# Altium integrated library TI Power Management Step-Down Regulator.IntLib: 565 symbols (part 21 of 33)
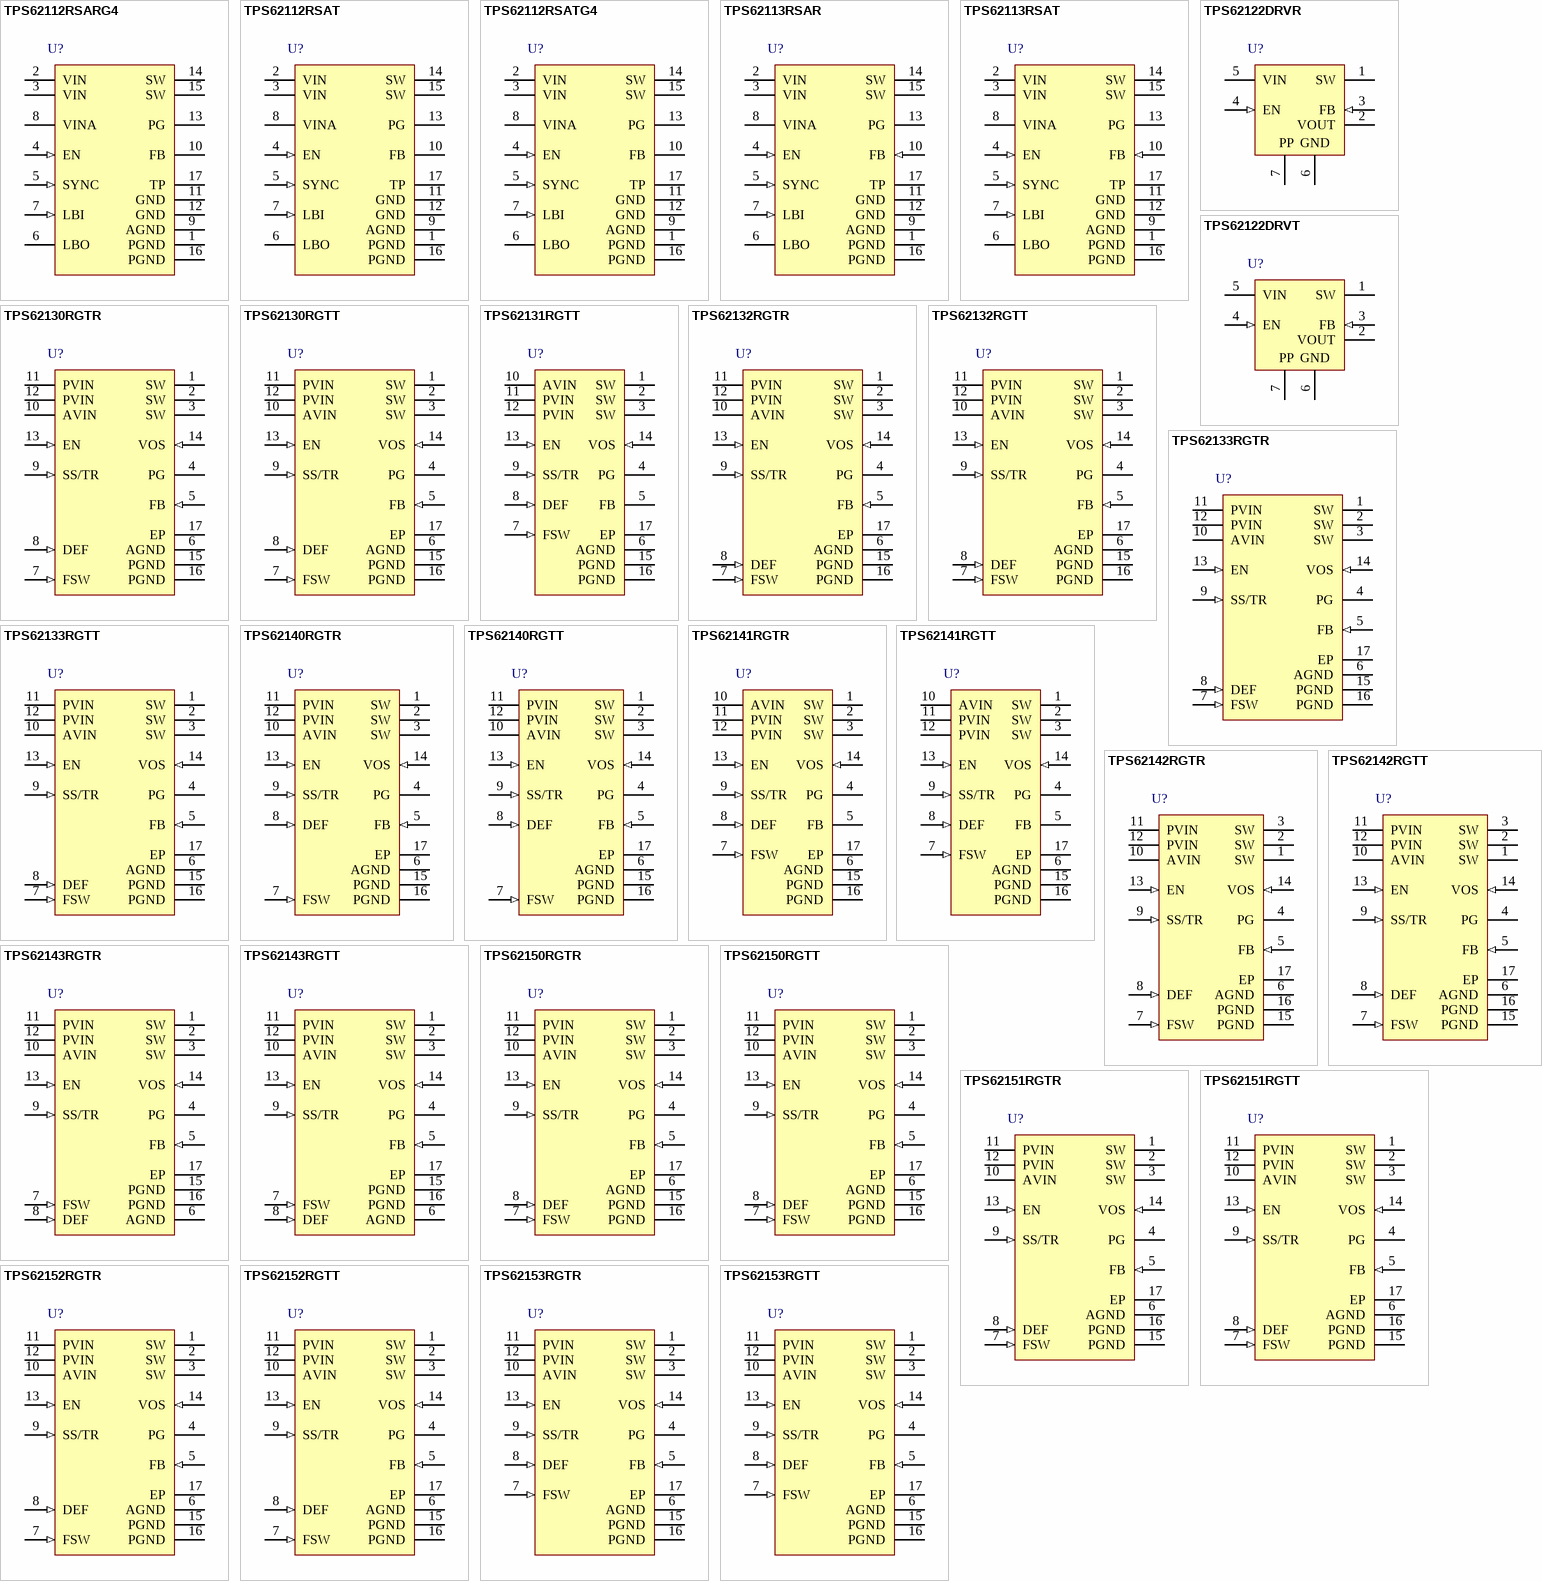
[diagram p39: symbols TPS62112RSARG4 to TPS62153RGTT]

## TPS62151RGTT
designator U?
Buck Step Down Regulator with 3 to 17 V Input and 1.8 V Output, -40 to 85 degC, 16-Pin QFN (RGT), Green (RoHS & no Sb/Br); Manufacturer: Texas Instruments; PartNumber: TPS62151RGTT; Duty Cycle(Max)(%): 90; Iout(Max)(A): 1; Iq(Typ)(mA): 0.017; Preset Vout(V): 1.8; Rating: Catalog; SubFamily: Step-Down Regulator; Switch Current Limit(Typ)(A): 1.7; Synchronous Rectification: TRUE; Vin(Max)(V): 17; Vin(Min)(V): 3; DatasheetVersion: SLVSAL5; PackageVersion: revH, Oct-2011; PackageReference: RGT16-1700X1700TP; PackageDescription: 16-Pin Plastic Quad Flat No-Lead, 3 x 3 mm Body, 0.5 mm Pitch, 1.7 x 1.7 mm Exposed Pad; Supplier 1: Digi-Key; Supplier Part Number 1: 296-30008-2-ND; Eco-Plan: Green (RoHS & no Sb/Br); Regulated Outputs(#): 1; Topology: Buck; Vout(Max)(V): 1.8; Vout(Min)(V): 1.8; Mounting Technology: Surface Mount; Code_JEDEC: MO-220; ComponentLink1Description: Datasheet; ComponentLink1URL: http://www.ti.com/general/docs/lit/getliterature.tsp?genericPartNumber=TPS62151&fileType=pdf; ComponentLink2Description: Package Specification; ComponentLink2URL: http://www.ti.com/litv/pdf/mpqf119g; ComponentLink3Description: URL Link1; ComponentLink3URL: Samples URL:http://www.ti.com/product/tps54611#samples
footprint RGT16-1700X1700TP (QFN, 16-Leads, Body 3x3mm, Pitch 0.5mm, Thermal Pad 1.7x1.7mm, TI Recommended)
pins: 1 SW (power) "Switch node, which is connected to the internal MOSFET switches. Connect inductor between SW and output capacitor.", 2 SW (power) "Switch node, which is connected to the internal MOSFET switches. Connect inductor between SW and output capacitor.", 3 SW (power) "Switch node, which is connected to the internal MOSFET switches. Connect inductor between SW and output capacitor.", 4 PG (hiz) "Output power good (High = VOUT ready, Low = VOUT below nominal regulation); open drain (requires pull-up resistor; goes high impedance, when device is switched off)", 5 FB (in) "Voltage feedback of adjustable version connect resistive voltage divider to this pin. Its recommended to connect FB to AGND on fixed output voltage versions for improved thermal performance.", 6 AGND (power) "Analog Ground", 7 FSW (in) "Switching Frequency Select (Low  approx= 2.5MHz, High  approx= 1.25MHz for typical operation)", 8 DEF (in) "Output Voltage Scaling (Low = nominal, High = nominal + 5%)", 9 SS/TR (in) "Soft-Start / Tracking Pin. An external capacitor connected to this pin sets the internal voltage reference rise time. It can be used for tracking and sequencing.", 10 AVIN (power) "Supply voltage for control circuitry. Connect to same source as PVIN.", 11 PVIN (power) "Supply voltage for power stage. Connect to same source as AVIN.", 12 PVIN (power) "Supply voltage for power stage. Connect to same source as AVIN.", 13 EN (in) "Enable input (High = enabled, Low = disabled)", 14 VOS (in) "Output voltage sense pin and connection for the control loop circuitry.", 15 PGND (power) "Power ground", 16 PGND (power) "Power ground", 17 EP (power) "Must be connected to AGND. Must be soldered to achieve appropriate power dissipation and mechanical reliability."

## TPS62152RGTR
designator U?
Buck Step Down Regulator with 3 to 17 V Input and 3.3 V Output, -40 to 85 degC, 16-Pin QFN (RGT), Green (RoHS & no Sb/Br); Manufacturer: Texas Instruments; PartNumber: TPS62152RGTR; Duty Cycle(Max)(%): 100; Iout(Max)(A): 1; Iq(Typ)(mA): 0.017; Preset Vout(V): 3.3; Rating: Catalog; SubFamily: Step-Down Regulator; Switch Current Limit(Typ)(A): 1.7; Synchronous Rectification: TRUE; Vin(Max)(V): 17; Vin(Min)(V): 3; DatasheetVersion: SLVSAL5; PackageVersion: revH, Oct-2011; PackageReference: RGT16-1700X1700TP; PackageDescription: 16-Pin Plastic Quad Flat No-Lead, 3 x 3 mm Body, 0.5 mm Pitch, 1.7 x 1.7 mm Exposed Pad; Supplier 1: Digi-Key; Supplier Part Number 1: TPS62152RGTR-ND; Eco-Plan: Green (RoHS & no Sb/Br); Regulated Outputs(#): 1; Topology: Buck; Vout(Max)(V): 3.3; Vout(Min)(V): 3.3; Mounting Technology: Surface Mount; Code_JEDEC: MO-220; ComponentLink1Description: Datasheet; ComponentLink1URL: http://www.ti.com/general/docs/lit/getliterature.tsp?genericPartNumber=TPS62152&fileType=pdf; ComponentLink2Description: Package Specification; ComponentLink2URL: http://www.ti.com/litv/pdf/mpqf119g; ComponentLink3Description: URL Link1; ComponentLink3URL: Samples URL:http://www.ti.com/product/tps62152#samples
footprint RGT16-1700X1700TP (QFN, 16-Leads, Body 3x3mm, Pitch 0.5mm, Thermal Pad 1.7x1.7mm, TI Recommended)
pins: 1 SW (power) "Switch node, which is connected to the internal MOSFET switches. Connect inductor between SW and output capacitor.", 2 SW (power) "Switch node, which is connected to the internal MOSFET switches. Connect inductor between SW and output capacitor.", 3 SW (power) "Switch node, which is connected to the internal MOSFET switches. Connect inductor between SW and output capacitor.", 4 PG (hiz) "Output power good (High = VOUT ready, Low = VOUT below nominal regulation) ; open drain (requires pull-up resistor; goes high impedance, when device is switched off)", 5 FB (in) "Voltage feedback of adjustable version connect resistive voltage divider to this pin. Its recommended to connect FB to AGND on fixed output voltage versions for improved thermal performance.", 6 AGND (power) "Analog Ground", 7 FSW (in) "Switching Frequency Select (Low ˜ 2.5MHz, High ˜ 1.25MHz for typical operation)", 8 DEF (in) "Output Voltage Scaling (Low = nominal, High = nominal + 5%)", 9 SS/TR (in) "Soft-Start / Tracking Pin. An external capacitor connected to this pin sets the internal voltage reference rise time. It can be used for tracking and sequencing.", 10 AVIN (power) "Supply voltage for control circuitry. Connect to same source as PVIN.", 11 PVIN (power) "Supply voltage for power stage. Connect to same source as AVIN.", 12 PVIN (power) "Supply voltage for power stage. Connect to same source as AVIN.", 13 EN (in) "Enable input (High = enabled, Low = disabled)", 14 VOS (in) "Output voltage sense pin and connection for the control loop circuitry", 15 PGND (power) "Power ground", 16 PGND (power) "Power ground", 17 EP (power) "Must be connected to AGND. Must be soldered to achieve appropriate power dissipation and mechanical reliability."

## TPS62152RGTT
designator U?
Buck Step Down Regulator with 3 to 17 V Input and 3.3 V Output, -40 to 85 degC, 16-Pin QFN (RGT), Green (RoHS & no Sb/Br); Manufacturer: Texas Instruments; PartNumber: TPS62152RGTT; Duty Cycle(Max)(%): 100; Iout(Max)(A): 1; Iq(Typ)(mA): 0.017; Preset Vout(V): 3.3; Rating: Catalog; SubFamily: Step-Down Regulator; Switch Current Limit(Typ)(A): 1.7; Synchronous Rectification: TRUE; Vin(Max)(V): 17; Vin(Min)(V): 3; DatasheetVersion: SLVSAL5; PackageVersion: revH, Oct-2011; PackageReference: RGT16-1700X1700TP; PackageDescription: 16-Pin Plastic Quad Flat No-Lead, 3 x 3 mm Body, 0.5 mm Pitch, 1.7 x 1.7 mm Exposed Pad; Supplier 1: Digi-Key; Supplier Part Number 1: 296-30009-2-ND; Eco-Plan: Green (RoHS & no Sb/Br); Regulated Outputs(#): 1; Topology: Buck; Vout(Max)(V): 3.3; Vout(Min)(V): 3.3; Mounting Technology: Surface Mount; Code_JEDEC: MO-220; ComponentLink1Description: Datasheet; ComponentLink1URL: http://www.ti.com/general/docs/lit/getliterature.tsp?genericPartNumber=TPS62152&fileType=pdf; ComponentLink2Description: Package Specification; ComponentLink2URL: http://www.ti.com/litv/pdf/mpqf119g; ComponentLink3Description: URL Link1; ComponentLink3URL: Samples URL:http://www.ti.com/product/tps54611#samples
footprint RGT16-1700X1700TP (QFN, 16-Leads, Body 3x3mm, Pitch 0.5mm, Thermal Pad 1.7x1.7mm, TI Recommended)
pins: 1 SW (power) "Switch node, which is connected to the internal MOSFET switches. Connect inductor between SW and output capacitor.", 2 SW (power) "Switch node, which is connected to the internal MOSFET switches. Connect inductor between SW and output capacitor.", 3 SW (power) "Switch node, which is connected to the internal MOSFET switches. Connect inductor between SW and output capacitor.", 4 PG (hiz) "Output power good (High = VOUT ready, Low = VOUT below nominal regulation) ; open drain (requires pull-up resistor; goes high impedance, when device is switched off)", 5 FB (in) "Voltage feedback of adjustable version connect resistive voltage divider to this pin. Its recommended to connect FB to AGND on fixed output voltage versions for improved thermal performance.", 6 AGND (power) "Analog Ground", 7 FSW (in) "Switching Frequency Select (Low ˜ 2.5MHz, High ˜ 1.25MHz for typical operation)", 8 DEF (in) "Output Voltage Scaling (Low = nominal, High = nominal + 5%)", 9 SS/TR (in) "Soft-Start / Tracking Pin. An external capacitor connected to this pin sets the internal voltage reference rise time. It can be used for tracking and sequencing.", 10 AVIN (power) "Supply voltage for control circuitry. Connect to same source as PVIN.", 11 PVIN (power) "Supply voltage for power stage. Connect to same source as AVIN.", 12 PVIN (power) "Supply voltage for power stage. Connect to same source as AVIN.", 13 EN (in) "Enable input (High = enabled, Low = disabled)", 14 VOS (in) "Output voltage sense pin and connection for the control loop circuitry", 15 PGND (power) "Power ground", 16 PGND (power) "Power ground", 17 EP (power) "Must be connected to AGND. Must be soldered to achieve appropriate power dissipation and mechanical reliability."

## TPS62153RGTR
designator U?
Buck Step Down Regulator with 3 to 17 V Input and 5 V Output, -40 to 85 degC, 16-Pin QFN (RGT), Green (RoHS & no Sb/Br); Manufacturer: Texas Instruments; PartNumber: TPS62153RGTR; Duty Cycle(Max)(%): 100; Iout(Max)(A): 1; Iq(Typ)(mA): 0.017; Preset Vout(V): 5; Rating: Catalog; SubFamily: Step-Down Regulator; Switch Current Limit(Typ)(A): 1.7; Synchronous Rectification: TRUE; Vin(Max)(V): 17; Vin(Min)(V): 3; DatasheetVersion: SLVSAL5; PackageVersion: revH, Oct-2011; PackageReference: RGT16-1700X1700TP; PackageDescription: 16-Pin Plastic Quad Flat No-Lead, 3 x 3 mm Body, 0.5 mm Pitch, 1.7 x 1.7 mm Exposed Pad; Supplier 1: Digi-Key; Supplier Part Number 1: TPS62153RGTR-ND; Eco-Plan: Green (RoHS & no Sb/Br); Regulated Outputs(#): 1; Topology: Buck; Vout(Max)(V): 5; Vout(Min)(V): 5; Mounting Technology: Surface Mount; Code_JEDEC: MO-220; ComponentLink1Description: Datasheet; ComponentLink1URL: http://www.ti.com/general/docs/lit/getliterature.tsp?genericPartNumber=TPS62153&fileType=pdf; ComponentLink2Description: Package Specification; ComponentLink2URL: http://www.ti.com/litv/pdf/mpqf119g; ComponentLink3Description: URL Link1; ComponentLink3URL: Samples URL:http://www.ti.com/product/tps62153#samples
footprint RGT16-1700X1700TP (QFN, 16-Leads, Body 3x3mm, Pitch 0.5mm, Thermal Pad 1.7x1.7mm, TI Recommended)
pins: 1 SW (power) "Switch node, which is connected to the internal MOSFET switches. Connect inductor between SW and output capacitor.", 2 SW (power) "Switch node, which is connected to the internal MOSFET switches. Connect inductor between SW and output capacitor.", 3 SW (power) "Switch node, which is connected to the internal MOSFET switches. Connect inductor between SW and output capacitor.", 4 PG (hiz) "Output power good (High = VOUT ready, Low = VOUT below nominal regulation) ; open drain (requires pull-up resistor; goes high impedance, when device is switched off)", 5 FB (in) "Voltage feedback of adjustable version connect resistive voltage divider to this pin. Its recommended to connect FB to AGND on fixed output voltage versions for improved thermal performance.", 6 AGND (power) "Analog Ground", 7 FSW (in) "Switching Frequency Select (Low ˜ 2.5MHz, High ˜ 1.25MHz for typical operation)", 8 DEF (in) "Output Voltage Scaling (Low = nominal, High = nominal + 5%)", 9 SS/TR (in) "Soft-Start / Tracking Pin. An external capacitor connected to this pin sets the internal voltage reference rise time. It can be used for tracking and sequencing.", 10 AVIN (power) "Supply voltage for control circuitry. Connect to same source as PVIN.", 11 PVIN (power) "Supply voltage for power stage. Connect to same source as AVIN.", 12 PVIN (power) "Supply voltage for power stage. Connect to same source as AVIN.", 13 EN (in) "Enable input (High = enabled, Low = disabled)", 14 VOS (in) "Output voltage sense pin and connection for the control loop circuitry.", 15 PGND (power) "Power ground", 16 PGND (power) "Power ground", 17 EP (power) "Must be connected to AGND. Must be soldered to achieve appropriate power dissipation and mechanical reliability."

## TPS62153RGTT
designator U?
Buck Step Down Regulator with 3 to 17 V Input and 5 V Output, -40 to 85 degC, 16-Pin QFN (RGT), Green (RoHS & no Sb/Br); Manufacturer: Texas Instruments; PartNumber: TPS62153RGTT; Duty Cycle(Max)(%): 100; Iout(Max)(A): 1; Iq(Typ)(mA): 0.017; Preset Vout(V): 5; Rating: Catalog; SubFamily: Step-Down Regulator; Switch Current Limit(Typ)(A): 1.7; Synchronous Rectification: TRUE; Vin(Max)(V): 17; Vin(Min)(V): 3; DatasheetVersion: SLVSAL5; PackageVersion: revH, Oct-2011; PackageReference: RGT16-1700X1700TP; PackageDescription: 16-Pin Plastic Quad Flat No-Lead, 3 x 3 mm Body, 0.5 mm Pitch, 1.7 x 1.7 mm Exposed Pad; Supplier 1: Digi-Key; Supplier Part Number 1: 296-30010-2-ND; Eco-Plan: Green (RoHS & no Sb/Br); Regulated Outputs(#): 1; Topology: Buck; Vout(Max)(V): 5; Vout(Min)(V): 5; Mounting Technology: Surface Mount; Code_JEDEC: MO-220; ComponentLink1Description: Datasheet; ComponentLink1URL: http://www.ti.com/general/docs/lit/getliterature.tsp?genericPartNumber=TPS62153&fileType=pdf; ComponentLink2Description: Package Specification; ComponentLink2URL: http://www.ti.com/litv/pdf/mpqf119g; ComponentLink3Description: URL Link1; ComponentLink3URL: Samples URL:http://www.ti.com/product/tps54611#samples
footprint RGT16-1700X1700TP (QFN, 16-Leads, Body 3x3mm, Pitch 0.5mm, Thermal Pad 1.7x1.7mm, TI Recommended)
pins: 1 SW (power) "Switch node, which is connected to the internal MOSFET switches. Connect inductor between SW and output capacitor.", 2 SW (power) "Switch node, which is connected to the internal MOSFET switches. Connect inductor between SW and output capacitor.", 3 SW (power) "Switch node, which is connected to the internal MOSFET switches. Connect inductor between SW and output capacitor.", 4 PG (hiz) "Output power good (High = VOUT ready, Low = VOUT below nominal regulation) ; open drain (requires pull-up resistor; goes high impedance, when device is switched off)", 5 FB (in) "Voltage feedback of adjustable version connect resistive voltage divider to this pin. Its recommended to connect FB to AGND on fixed output voltage versions for improved thermal performance.", 6 AGND (power) "Analog Ground", 7 FSW (in) "Switching Frequency Select (Low ˜ 2.5MHz, High ˜ 1.25MHz for typical operation)", 8 DEF (in) "Output Voltage Scaling (Low = nominal, High = nominal + 5%)", 9 SS/TR (in) "Soft-Start / Tracking Pin. An external capacitor connected to this pin sets the internal voltage reference rise time. It can be used for tracking and sequencing.", 10 AVIN (power) "Supply voltage for control circuitry. Connect to same source as PVIN.", 11 PVIN (power) "Supply voltage for power stage. Connect to same source as AVIN.", 12 PVIN (power) "Supply voltage for power stage. Connect to same source as AVIN.", 13 EN (in) "Enable input (High = enabled, Low = disabled)", 14 VOS (in) "Output voltage sense pin and connection for the control loop circuitry.", 15 PGND (power) "Power ground", 16 PGND (power) "Power ground", 17 EP (power) "Must be connected to AGND. Must be soldered to achieve appropriate power dissipation and mechanical reliability."

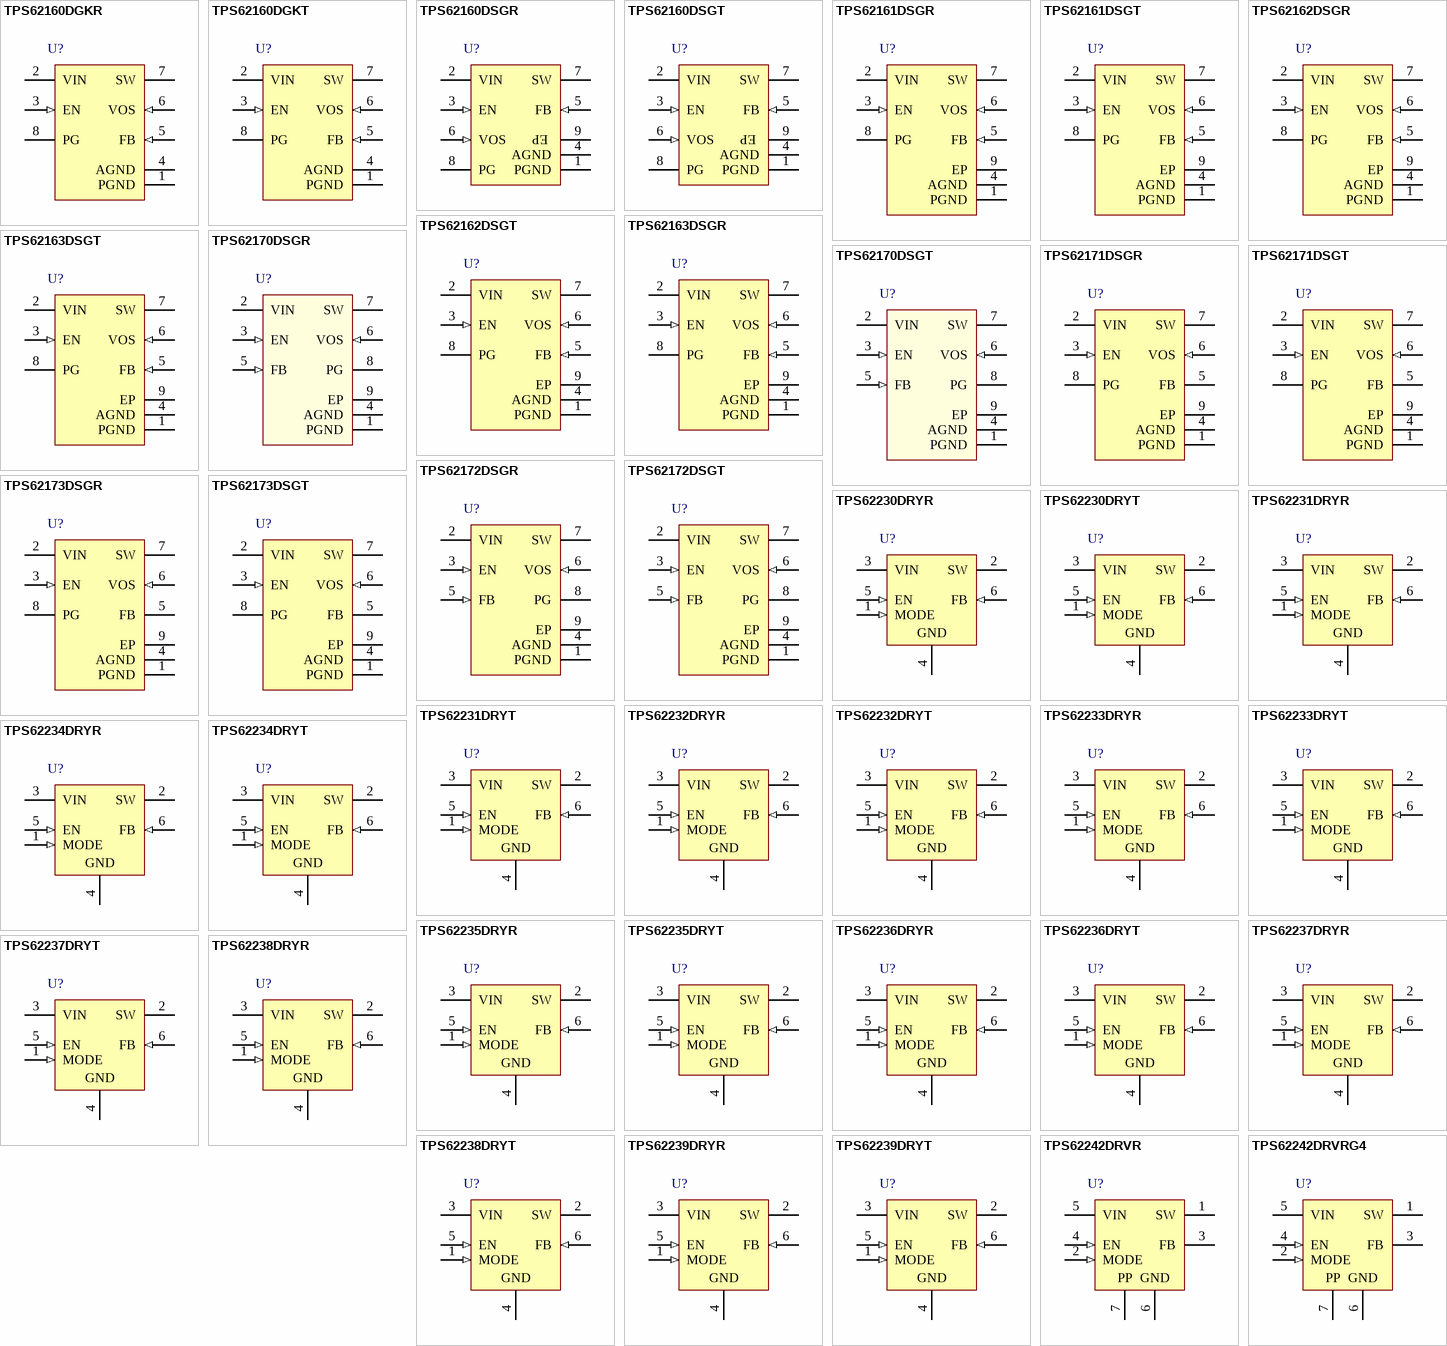
[diagram p11: symbols TPS62160DGKR to TPS62242DRVRG4]

## TPS62160DGKR
designator U?
Buck Step Down Regulator with 3 to 17 V Input and 0.9 to 6 V Output, -40 to 85 degC, 8-Pin VSSOP (DGK), Green (RoHS & no Sb/Br); Manufacturer: Texas Instruments; PartNumber: TPS62160DGKR; Duty Cycle(Max)(%): 100; Iout(Max)(A): 1; Iq(Typ)(mA): 0.017; Rating: Catalog; SubFamily: Step-Down Regulator; Switch Current Limit(Typ)(A): 1.8; Synchronous Rectification: TRUE; Vin(Max)(V): 17; Vin(Min)(V): 3; Vout(Max)(V): 6; Vout(Min)(V): 0.9; DatasheetVersion: SLVSAM2A; PackageVersion: revE, May-2006; PackageReference: DGK8; PackageDescription: 8-Pin Thin Small Outline Package 3 x 3 mm Body ,0.65 mm Pitch; Supplier 1: Digi-Key; Supplier Part Number 1: TPS62160DGKR-ND; Eco-Plan: Green (RoHS & no Sb/Br); Regulated Outputs(#): 1; Topology: Buck; Mounting Technology: Surface Mount; Code_JEDEC: MO-187-AA; ComponentLink1Description: Datasheet; ComponentLink1URL: http://www.ti.com/general/docs/lit/getliterature.tsp?genericPartNumber=TPS62160&fileType=pdf; ComponentLink2Description: Package Specification; ComponentLink2URL: http://www.ti.com/lit/ml/mpds028d/mpds028d.pdf; ComponentLink3Description: URL Link1; ComponentLink3URL: Samples URL:http://www.ti.com/product/tps62160#samples
footprint DGK8_N (TSOP, 8-Leads, Body 3x3mm, Pitch 0.65mm, IPC Medium Density)
footprint DGK8_L (TSOP, 8-Leads, Body 3x3mm, Pitch 0.65mm, IPC High Density)
footprint DGK8_M (TSOP, 8-Leads, Body 3x3mm, Pitch 0.65mm, IPC Low Density)
pins: 1 PGND (power) "Power ground", 2 VIN (power) "Supply voltage", 3 EN (in) "Enable input (High = enabled, Low = disabled)", 4 AGND (power) "Analog Ground", 5 FB (in) "Voltage feedback of adjustable version. Connect resistive voltage divider to this pin. It is recommended to connect FB to AGND on fixed output voltage versions for improved thermal performance.", 6 VOS (in) "Output voltage sense pin and connection for the control loop circuitry.", 7 SW (power) "Switch node, which is connected to the internal MOSFET switches. Connect inductor between SW and output capacitor", 8 PG (hiz) "Output power good (High = VOUT ready, Low = VOUT below nominal regulation) ; open drain (requires pull-up resistor; goes high impedance, when device is switched off)"

## TPS62160DGKT
designator U?
Buck Step Down Regulator with 3 to 17 V Input and 0.9 to 6 V Output, -40 to 85 degC, 8-Pin VSSOP (DGK), Green (RoHS & no Sb/Br); Manufacturer: Texas Instruments; PartNumber: TPS62160DGKT; Duty Cycle(Max)(%): 100; Iout(Max)(A): 1; Iq(Typ)(mA): 0.017; Rating: Catalog; SubFamily: Step-Down Regulator; Switch Current Limit(Typ)(A): 1.8; Synchronous Rectification: TRUE; Vin(Max)(V): 17; Vin(Min)(V): 3; Vout(Max)(V): 6; Vout(Min)(V): 0.9; DatasheetVersion: SLVSAM2A; PackageVersion: revE, May-2006; PackageReference: DGK8; PackageDescription: 8-Pin Thin Small Outline Package 3 x 3 mm Body ,0.65 mm Pitch; Supplier 1: Digi-Key; Supplier Part Number 1: 296-30318-2-ND; Supplier 7: Mouser; Supplier Part Number 7: 595-TPS62160DGKT; Eco-Plan: Green (RoHS & no Sb/Br); Regulated Outputs(#): 1; Topology: Buck; Mounting Technology: Surface Mount; Code_JEDEC: MO-187-AA; ComponentLink1Description: Datasheet; ComponentLink1URL: http://www.ti.com/general/docs/lit/getliterature.tsp?genericPartNumber=TPS62160&fileType=pdf; ComponentLink2Description: Package Specification; ComponentLink2URL: http://www.ti.com/lit/ml/mpds028d/mpds028d.pdf; ComponentLink3Description: URL Link1; ComponentLink3URL: Samples URL:http://www.ti.com/product/tps62160#samples
footprint DGK8_N (TSOP, 8-Leads, Body 3x3mm, Pitch 0.65mm, IPC Medium Density)
footprint DGK8_L (TSOP, 8-Leads, Body 3x3mm, Pitch 0.65mm, IPC High Density)
footprint DGK8_M (TSOP, 8-Leads, Body 3x3mm, Pitch 0.65mm, IPC Low Density)
pins: 1 PGND (power) "Power ground", 2 VIN (power) "Supply voltage", 3 EN (in) "Enable input (High = enabled, Low = disabled)", 4 AGND (power) "Analog Ground", 5 FB (in) "Voltage feedback of adjustable version. Connect resistive voltage divider to this pin. It is recommended to connect FB to AGND on fixed output voltage versions for improved thermal performance.", 6 VOS (in) "Output voltage sense pin and connection for the control loop circuitry.", 7 SW (power) "Switch node, which is connected to the internal MOSFET switches. Connect inductor between SW and output capacitor", 8 PG (hiz) "Output power good (High = VOUT ready, Low = VOUT below nominal regulation) ; open drain (requires pull-up resistor; goes high impedance, when device is switched off)"

## TPS62160DSGR
designator U?
Buck Step Down Regulator with 3 to 17 V Input and 0.9 to 6 V Output, -40 to 85 degC, 8-Pin WSON (DSG), Green (RoHS & no Sb/Br); Manufacturer: Texas Instruments; PartNumber: TPS62160DSGR; Duty Cycle(Max)(%): 100; Iout(Max)(A): 1; Iq(Typ)(mA): 0.017; Rating: Catalog; SubFamily: Step-Down Regulator; Switch Current Limit(Typ)(A): 1.8; Synchronous Rectification: TRUE; Vin(Max)(V): 17; Vin(Min)(V): 3; Vout(Max)(V): 6; Vout(Min)(V): 0.9; DatasheetVersion: SLVSAM2A; PackageVersion: revB, Oct-2010; PackageReference: DSG8-1600X900TP; PackageDescription: 8-Pin Plastic Small Outline No-Lead, 2 x 2 x 0.8 mm Body, 0.5 mm Pitch, Exposed Pad; Supplier 1: Digi-Key; Supplier Part Number 1: 296-29895-2-ND; Eco-Plan: Green (RoHS & no Sb/Br); Regulated Outputs(#): 1; Topology: Buck; Mounting Technology: Surface Mount; Code_JEDEC: MO-229; ComponentLink1Description: Datasheet; ComponentLink1URL: http://www.ti.com/general/docs/lit/getliterature.tsp?genericPartNumber=TPS62160&fileType=pdf; ComponentLink2Description: Package Specification; ComponentLink2URL: http://www.ti.com/litv/pdf/mpds308a; ComponentLink3Description: URL Link1; ComponentLink3URL: Samples URL:http://www.ti.com/product/tps62160#samples
footprint DSG8-1600X900TP (SON, 8-Leads, Body 2x2mm, Pitch 0.5mm, Thermal Pad 1.6x0.9mm, TI Recommended)
pins: 1 PGND (power) "Power ground", 2 VIN (power) "Supply voltage", 3 EN (in) "Enable input (High = enabled, Low = disabled)", 4 AGND (power) "Analog Ground", 5 FB (in) "Voltage feedback of adjustable version. Connect resistive voltage divider to this pin. It is recommended to connect FB to AGND on fixed output voltage versions for improved thermal performance.", 6 VOS (in) "Output voltage sense pin and connection for the control loop circuitry.", 7 SW (power) "Switch node, which is connected to the internal MOSFET switches. Connect inductor between SW and output capacitor.", 8 PG (hiz) "Output power good (High = VOUT ready, Low = VOUT below nominal regulation) ; open drain (requires pull-up resistor; goes high impedance, when device is switched off)", 9 EXPOSED THERMAL PAD (power) "Must be connected to AGND. Must be soldered to achieve appropriate power dissipation and mechanical reliability."
text: EP

## TPS62160DSGT
designator U?
Buck Step Down Regulator with 3 to 17 V Input and 0.9 to 6 V Output, -40 to 85 degC, 8-Pin WSON (DSG), Green (RoHS & no Sb/Br); Manufacturer: Texas Instruments; PartNumber: TPS62160DSGT; Duty Cycle(Max)(%): 100; Iout(Max)(A): 1; Iq(Typ)(mA): 0.017; Rating: Catalog; SubFamily: Step-Down Regulator; Switch Current Limit(Typ)(A): 1.8; Synchronous Rectification: TRUE; Vin(Max)(V): 17; Vin(Min)(V): 3; Vout(Max)(V): 6; Vout(Min)(V): 0.9; DatasheetVersion: SLVSAM2A; PackageVersion: revB, Oct-2010; PackageReference: DSG8-1600X900TP; PackageDescription: 8-Pin Plastic Small Outline No-Lead, 2 x 2 x 0.8 mm Body, 0.5 mm Pitch, Exposed Pad; Supplier 1: Digi-Key; Supplier Part Number 1: 296-30226-2-ND; Eco-Plan: Green (RoHS & no Sb/Br); Regulated Outputs(#): 1; Topology: Buck; Mounting Technology: Surface Mount; Code_JEDEC: MO-229; ComponentLink1Description: Datasheet; ComponentLink1URL: http://www.ti.com/general/docs/lit/getliterature.tsp?genericPartNumber=TPS62160&fileType=pdf; ComponentLink2Description: Package Specification; ComponentLink2URL: http://www.ti.com/litv/pdf/mpds308a; ComponentLink3Description: URL Link1; ComponentLink3URL: Samples URL:http://www.ti.com/product/tps54611#samples
footprint DSG8-1600X900TP (SON, 8-Leads, Body 2x2mm, Pitch 0.5mm, Thermal Pad 1.6x0.9mm, TI Recommended)
pins: 1 PGND (power) "Power ground", 2 VIN (power) "Supply voltage", 3 EN (in) "Enable input (High = enabled, Low = disabled)", 4 AGND (power) "Analog Ground", 5 FB (in) "Voltage feedback of adjustable version. Connect resistive voltage divider to this pin. It is recommended to connect FB to AGND on fixed output voltage versions for improved thermal performance.", 6 VOS (in) "Output voltage sense pin and connection for the control loop circuitry.", 7 SW (power) "Switch node, which is connected to the internal MOSFET switches. Connect inductor between SW and output capacitor.", 8 PG (hiz) "Output power good (High = VOUT ready, Low = VOUT below nominal regulation) ; open drain (requires pull-up resistor; goes high impedance, when device is switched off)", 9 EXPOSED THERMAL PAD (power) "Must be connected to AGND. Must be soldered to achieve appropriate power dissipation and mechanical reliability."
text: EP

## TPS62161DSGR
designator U?
Buck Step Down Regulator with 3 to 17 V Input and 1.8 V Output, -40 to 85 degC, 8-Pin WSON (DSG), Green (RoHS & no Sb/Br); Manufacturer: Texas Instruments; PartNumber: TPS62161DSGR; Duty Cycle(Max)(%): 100; Iout(Max)(A): 1; Iq(Typ)(mA): 0.017; Preset Vout(V): 1.8; Rating: Catalog; SubFamily: Step-Down Regulator; Synchronous Rectification: TRUE; Vin(Max)(V): 17; Vin(Min)(V): 3; DatasheetVersion: SLVSAM2A; PackageVersion: revB, Oct-2010; PackageReference: DSG8-1600X900TP; PackageDescription: 8-Pin Plastic Small Outline No-Lead, 2 x 2 x 0.8 mm Body, 0.5 mm Pitch, Exposed Pad; Supplier 1: Digi-Key; Supplier Part Number 1: 296-29896-2-ND; Eco-Plan: Green (RoHS & no Sb/Br); Regulated Outputs(#): 1; Switch Current Limit(Typ)(A): 1.8; Topology: Buck; Vout(Max)(V): 1.8; Vout(Min)(V): 1.8; Mounting Technology: Surface Mount; Code_JEDEC: MO-229; ComponentLink1Description: Datasheet; ComponentLink1URL: http://www.ti.com/general/docs/lit/getliterature.tsp?genericPartNumber=TPS62161&fileType=pdf; ComponentLink2Description: Package Specification; ComponentLink2URL: http://www.ti.com/litv/pdf/mpds308a; ComponentLink3Description: URL Link1; ComponentLink3URL: Samples URL:http://www.ti.com/product/tps62161#samples
footprint DSG8-1600X900TP (SON, 8-Leads, Body 2x2mm, Pitch 0.5mm, Thermal Pad 1.6x0.9mm, TI Recommended)
pins: 1 PGND (power) "Power ground", 2 VIN (power) "Supply voltage", 3 EN (in) "Enable input (High = enabled, Low = disabled)", 4 AGND (power) "Analog Ground", 5 FB (in) "Voltage feedback of adjustable version. Connect resistive voltage divider to this pin. It is recommended to connect FB to AGND on fixed output voltage versions for improved thermal performance.", 6 VOS (in) "Output voltage sense pin and connection for the control loop circuitry.", 7 SW (power) "Switch node, which is connected to the internal MOSFET switches. Connect inductor between SW and output capacitor.", 8 PG (hiz) "Output power good (High = VOUT ready, Low = VOUT below nominal regulation) ; open drain (requires pull-up resistor; goes high impedance, when device is switched off)", 9 EP (power) "Must be connected to AGND. Must be soldered to achieve appropriate power dissipation and mechanical reliability."

## TPS62161DSGT
designator U?
Buck Step Down Regulator with 3 to 17 V Input and 1.8 V Output, -40 to 85 degC, 8-Pin WSON (DSG), Green (RoHS & no Sb/Br); Manufacturer: Texas Instruments; PartNumber: TPS62161DSGT; Duty Cycle(Max)(%): 100; Iout(Max)(A): 1; Iq(Typ)(mA): 0.017; Preset Vout(V): 1.8; Rating: Catalog; SubFamily: Step-Down Regulator; Synchronous Rectification: TRUE; Vin(Max)(V): 17; Vin(Min)(V): 3; DatasheetVersion: SLVSAM2A; PackageVersion: revB, Oct-2010; PackageReference: DSG8-1600X900TP; PackageDescription: 8-Pin Plastic Small Outline No-Lead, 2 x 2 x 0.8 mm Body, 0.5 mm Pitch, Exposed Pad; Supplier 1: Digi-Key; Supplier Part Number 1: 296-30227-2-ND; Eco-Plan: Green (RoHS & no Sb/Br); Regulated Outputs(#): 1; Switch Current Limit(Typ)(A): 1.8; Topology: Buck; Vout(Max)(V): 1.8; Vout(Min)(V): 1.8; Mounting Technology: Surface Mount; Code_JEDEC: MO-229; ComponentLink1Description: Datasheet; ComponentLink1URL: http://www.ti.com/general/docs/lit/getliterature.tsp?genericPartNumber=TPS62161&fileType=pdf; ComponentLink2Description: Package Specification; ComponentLink2URL: http://www.ti.com/litv/pdf/mpds308a; ComponentLink3Description: URL Link1; ComponentLink3URL: Samples URL:http://www.ti.com/product/tps54611#samples
footprint DSG8-1600X900TP (SON, 8-Leads, Body 2x2mm, Pitch 0.5mm, Thermal Pad 1.6x0.9mm, TI Recommended)
pins: 1 PGND (power) "Power ground", 2 VIN (power) "Supply voltage", 3 EN (in) "Enable input (High = enabled, Low = disabled)", 4 AGND (power) "Analog Ground", 5 FB (in) "Voltage feedback of adjustable version. Connect resistive voltage divider to this pin. It is recommended to connect FB to AGND on fixed output voltage versions for improved thermal performance.", 6 VOS (in) "Output voltage sense pin and connection for the control loop circuitry.", 7 SW (power) "Switch node, which is connected to the internal MOSFET switches. Connect inductor between SW and output capacitor.", 8 PG (hiz) "Output power good (High = VOUT ready, Low = VOUT below nominal regulation) ; open drain (requires pull-up resistor; goes high impedance, when device is switched off)", 9 EP (power) "Must be connected to AGND. Must be soldered to achieve appropriate power dissipation and mechanical reliability."

## TPS62162DSGR
designator U?
Buck Step Down Regulator with 3 to 17 V Input and 3.3 V Output, -40 to 85 degC, 8-Pin WSON (DSG), Green (RoHS & no Sb/Br); Manufacturer: Texas Instruments; PartNumber: TPS62162DSGR; Duty Cycle(Max)(%): 100; Iout(Max)(A): 1; Iq(Typ)(mA): 0.017; Preset Vout(V): 3.3; Rating: Catalog; SubFamily: Step-Down Regulator; Switch Current Limit(Typ)(A): 1.8; Synchronous Rectification: TRUE; Vin(Max)(V): 17; Vin(Min)(V): 3; DatasheetVersion: SLVSAM2A; PackageVersion: revB, Oct-2010; PackageReference: DSG8-1600X900TP; PackageDescription: 8-Pin Plastic Small Outline No-Lead, 2 x 2 x 0.8 mm Body, 0.5 mm Pitch, Exposed Pad; Supplier 1: Digi-Key; Supplier Part Number 1: TPS62162DSGR-ND; Eco-Plan: Green (RoHS & no Sb/Br); Regulated Outputs(#): 1; Topology: Buck; Vout(Max)(V): 3.3; Vout(Min)(V): 3.3; Mounting Technology: Surface Mount; Code_JEDEC: MO-229; ComponentLink1Description: Datasheet; ComponentLink1URL: http://www.ti.com/general/docs/lit/getliterature.tsp?genericPartNumber=TPS62162&fileType=pdf; ComponentLink2Description: Package Specification; ComponentLink2URL: http://www.ti.com/litv/pdf/mpds308a; ComponentLink3Description: URL Link1; ComponentLink3URL: Samples URL:http://www.ti.com/product/tps62162#samples
footprint DSG8-1600X900TP (SON, 8-Leads, Body 2x2mm, Pitch 0.5mm, Thermal Pad 1.6x0.9mm, TI Recommended)
pins: 1 PGND (power) "Power ground", 2 VIN (power) "Supply voltage", 3 EN (in) "Enable input (High = enabled, Low = disabled)", 4 AGND (power) "Analog Ground", 5 FB (in) "Voltage feedback of adjustable version. Connect resistive voltage divider to this pin. It is recommended to connect FB to AGND on fixed output voltage versions for improved thermal performance.", 6 VOS (in) "Output voltage sense pin and connection for the control loop circuitry.", 7 SW (power) "Switch node, which is connected to the internal MOSFET switches.Connect inductor between SW and output capacitor.", 8 PG (hiz) "Output power good (High = VOUT ready, Low = VOUT below nominal regulation) ; open drain (requires pull-up resistor; goes high impedance, when device is switched off)", 9 EP (power) "Must be connected to AGND. Must be soldered to achieve appropriate power dissipation and mechanical Thermal Pad reliability."

## TPS62162DSGT
designator U?
Buck Step Down Regulator with 3 to 17 V Input and 3.3 V Output, -40 to 85 degC, 8-Pin WSON (DSG), Green (RoHS & no Sb/Br); Manufacturer: Texas Instruments; PartNumber: TPS62162DSGT; Duty Cycle(Max)(%): 100; Iout(Max)(A): 1; Iq(Typ)(mA): 0.017; Preset Vout(V): 3.3; Rating: Catalog; SubFamily: Step-Down Regulator; Switch Current Limit(Typ)(A): 1.8; Synchronous Rectification: TRUE; Vin(Max)(V): 17; Vin(Min)(V): 3; DatasheetVersion: SLVSAM2A; PackageVersion: revB, Oct-2010; PackageReference: DSG8-1600X900TP; PackageDescription: 8-Pin Plastic Small Outline No-Lead, 2 x 2 x 0.8 mm Body, 0.5 mm Pitch, Exposed Pad; Supplier 1: Digi-Key; Supplier Part Number 1: 296-29897-2-ND; Eco-Plan: Green (RoHS & no Sb/Br); Regulated Outputs(#): 1; Topology: Buck; Vout(Max)(V): 3.3; Vout(Min)(V): 3.3; Mounting Technology: Surface Mount; Code_JEDEC: MO-229; ComponentLink1Description: Datasheet; ComponentLink1URL: http://www.ti.com/general/docs/lit/getliterature.tsp?genericPartNumber=TPS62162&fileType=pdf; ComponentLink2Description: Package Specification; ComponentLink2URL: http://www.ti.com/litv/pdf/mpds308a; ComponentLink3Description: URL Link1; ComponentLink3URL: Samples URL:http://www.ti.com/product/tps54611#samples
footprint DSG8-1600X900TP (SON, 8-Leads, Body 2x2mm, Pitch 0.5mm, Thermal Pad 1.6x0.9mm, TI Recommended)
pins: 1 PGND (power) "Power ground", 2 VIN (power) "Supply voltage", 3 EN (in) "Enable input (High = enabled, Low = disabled)", 4 AGND (power) "Analog Ground", 5 FB (in) "Voltage feedback of adjustable version. Connect resistive voltage divider to this pin. It is recommended to connect FB to AGND on fixed output voltage versions for improved thermal performance.", 6 VOS (in) "Output voltage sense pin and connection for the control loop circuitry.", 7 SW (power) "Switch node, which is connected to the internal MOSFET switches.Connect inductor between SW and output capacitor.", 8 PG (hiz) "Output power good (High = VOUT ready, Low = VOUT below nominal regulation) ; open drain (requires pull-up resistor; goes high impedance, when device is switched off)", 9 EP (power) "Must be connected to AGND. Must be soldered to achieve appropriate power dissipation and mechanical Thermal Pad reliability."

## TPS62163DSGR
designator U?
Buck Step Down Regulator with 3 to 17 V Input and 5 V Output, -40 to 85 degC, 8-Pin WSON (DSG), Green (RoHS & no Sb/Br); Manufacturer: Texas Instruments; PartNumber: TPS62163DSGR; Duty Cycle(Max)(%): 100; Iout(Max)(A): 1; Iq(Typ)(mA): 0.017; Preset Vout(V): 5; Rating: Catalog; SubFamily: Step-Down Regulator; Switch Current Limit(Typ)(A): 1.8; Synchronous Rectification: TRUE; Vin(Max)(V): 17; Vin(Min)(V): 3; DatasheetVersion: SLVSAM2A; PackageVersion: revB, Oct-2010; PackageReference: DSG8-1600X900TP; PackageDescription: 8-Pin Plastic Small Outline No-Lead, 2 x 2 x 0.8 mm Body, 0.5 mm Pitch, Exposed Pad; Supplier 1: Digi-Key; Supplier Part Number 1: 296-29898-2-ND; Eco-Plan: Green (RoHS & no Sb/Br); Regulated Outputs(#): 1; Topology: Buck; Vout(Max)(V): 5; Vout(Min)(V): 5; Mounting Technology: Surface Mount; Code_JEDEC: MO-229; ComponentLink1Description: Datasheet; ComponentLink1URL: http://www.ti.com/general/docs/lit/getliterature.tsp?genericPartNumber=TPS62163&fileType=pdf; ComponentLink2Description: Package Specification; ComponentLink2URL: http://www.ti.com/litv/pdf/mpds308a; ComponentLink3Description: URL Link1; ComponentLink3URL: Samples URL:http://www.ti.com/product/tps62163#samples
footprint DSG8-1600X900TP (SON, 8-Leads, Body 2x2mm, Pitch 0.5mm, Thermal Pad 1.6x0.9mm, TI Recommended)
pins: 1 PGND (power) "Power ground", 2 VIN (power) "Supply voltage", 3 EN (in) "Enable input (High = enabled, Low = disabled)", 4 AGND (power) "Analog Ground", 5 FB (in) "Voltage feedback of adjustable version. Connect resistive voltage divider to this pin. It is recommended to connect FB to AGND on fixed output voltage versions for improved thermal performance.", 6 VOS (in) "Output voltage sense pin and connection for the control loop circuitry.", 7 SW (power) "Switch node, which is connected to the internal MOSFET switches. Connect inductor between SW and output capacitor", 8 PG (hiz) "Output power good (High = VOUT ready, Low = VOUT below nominal regulation) ; open drain (requires pull-up resistor; goes high impedance, when device is switched off)", 9 EP (power) "Must be connected to AGND. Must be soldered to achieve appropriate power dissipation and mechanical reliability."

## TPS62163DSGT
designator U?
Buck Step Down Regulator with 3 to 17 V Input and 5 V Output, -40 to 85 degC, 8-Pin WSON (DSG), Green (RoHS & no Sb/Br); Manufacturer: Texas Instruments; PartNumber: TPS62163DSGT; Duty Cycle(Max)(%): 100; Iout(Max)(A): 1; Iq(Typ)(mA): 0.017; Preset Vout(V): 5; Rating: Catalog; SubFamily: Step-Down Regulator; Switch Current Limit(Typ)(A): 1.8; Synchronous Rectification: TRUE; Vin(Max)(V): 17; Vin(Min)(V): 3; DatasheetVersion: SLVSAM2A; PackageVersion: revB, Oct-2010; PackageReference: DSG8-1600X900TP; PackageDescription: 8-Pin Plastic Small Outline No-Lead, 2 x 2 x 0.8 mm Body, 0.5 mm Pitch, Exposed Pad; Supplier 1: Digi-Key; Supplier Part Number 1: 296-30228-2-ND; Eco-Plan: Green (RoHS & no Sb/Br); Regulated Outputs(#): 1; Topology: Buck; Vout(Max)(V): 5; Vout(Min)(V): 5; Mounting Technology: Surface Mount; Code_JEDEC: MO-229; ComponentLink1Description: Datasheet; ComponentLink1URL: http://www.ti.com/general/docs/lit/getliterature.tsp?genericPartNumber=TPS62163&fileType=pdf; ComponentLink2Description: Package Specification; ComponentLink2URL: http://www.ti.com/litv/pdf/mpds308a; ComponentLink3Description: URL Link1; ComponentLink3URL: Samples URL:http://www.ti.com/product/tps54611#samples
footprint DSG8-1600X900TP (SON, 8-Leads, Body 2x2mm, Pitch 0.5mm, Thermal Pad 1.6x0.9mm, TI Recommended)
pins: 1 PGND (power) "Power ground", 2 VIN (power) "Supply voltage", 3 EN (in) "Enable input (High = enabled, Low = disabled)", 4 AGND (power) "Analog Ground", 5 FB (in) "Voltage feedback of adjustable version. Connect resistive voltage divider to this pin. It is recommended to connect FB to AGND on fixed output voltage versions for improved thermal performance.", 6 VOS (in) "Output voltage sense pin and connection for the control loop circuitry.", 7 SW (power) "Switch node, which is connected to the internal MOSFET switches. Connect inductor between SW and output capacitor", 8 PG (hiz) "Output power good (High = VOUT ready, Low = VOUT below nominal regulation) ; open drain (requires pull-up resistor; goes high impedance, when device is switched off)", 9 EP (power) "Must be connected to AGND. Must be soldered to achieve appropriate power dissipation and mechanical reliability."

## TPS62170DSGR
designator U?
Buck Step Down Regulator with 3 to 17 V Input and 0.9 to 6 V Output, -40 to 85 degC, 8-Pin WSON (DSG), Green (RoHS & no Sb/Br); Manufacturer: Texas Instruments; PartNumber: TPS62170DSGR; Duty Cycle(Max)(%): 100; Iout(Max)(A): 0.5; Iq(Typ)(mA): 0.017; Rating: Catalog; Regulated Outputs(#): 1; SubFamily: Step-Down Regulator; Switch Current Limit(Typ)(A): 1.05; Synchronous Rectification: TRUE; Vin(Max)(V): 17; Vin(Min)(V): 3; Vout(Max)(V): 6; Vout(Min)(V): 0.9; DatasheetVersion: SLVSAT8A; PackageVersion: revB, Oct-2010; PackageReference: DSG8-1600X900TP; PackageDescription: 8-Pin Plastic Small Outline No-Lead, 2 x 2 x 0.8 mm Body, 0.5 mm Pitch, Exposed Pad; Supplier 1: Digi-Key; Supplier Part Number 1: 296-29865-2-ND; Eco-Plan: Green (RoHS & no Sb/Br); Topology: Buck; Mounting Technology: Surface Mount; Code_JEDEC: MO-229; ComponentLink1Description: Datasheet; ComponentLink1URL: http://www.ti.com/general/docs/lit/getliterature.tsp?genericPartNumber=TPS62170&fileType=pdf; ComponentLink2Description: Package Specification; ComponentLink2URL: http://www.ti.com/litv/pdf/mpds308a; ComponentLink3Description: URL Link1; ComponentLink3URL: Samples URL:http://www.ti.com/product/tps62170#samples
footprint DSG8-1600X900TP (SON, 8-Leads, Body 2x2mm, Pitch 0.5mm, Thermal Pad 1.6x0.9mm, TI Recommended)
pins: 1 PGND (power) "Power ground", 2 VIN (power) "Supply voltage", 3 EN (in) "Enable input (High = enabled, Low = disabled)", 4 AGND (power) "Analog Ground", 5 FB (in) "Voltage feedback of adjustable version. Connect resistive voltage divider to this pin. It is recommended to connect FB to AGND on fixed output voltage versions for improved thermal performance.", 6 VOS (in) "Output voltage sense pin and connection for the control loop circuitry.", 7 SW (power) "Switch node, which is connected to the internal MOSFET switches. Connect inductor between SW and output capacitor.", 8 PG (hiz) "Output power good (High = VOUT ready, Low = VOUT below nominal regulation) ; open drain (requires pull-up resistor; goes high impedance, when device is switched off)", 9 EP (power) "Must be connected to AGND. Must be soldered to achieve appropriate power dissipation and mechanical reliability."

## TPS62170DSGT
designator U?
Buck Step Down Regulator with 3 to 17 V Input and 0.9 to 6 V Output, -40 to 85 degC, 8-Pin WSON (DSG), Green (RoHS & no Sb/Br); Manufacturer: Texas Instruments; PartNumber: TPS62170DSGT; Duty Cycle(Max)(%): 100; Iout(Max)(A): 0.5; Iq(Typ)(mA): 0.017; Rating: Catalog; Regulated Outputs(#): 1; SubFamily: Step-Down Regulator; Switch Current Limit(Typ)(A): 1.05; Synchronous Rectification: TRUE; Vin(Max)(V): 17; Vin(Min)(V): 3; Vout(Max)(V): 6; Vout(Min)(V): 0.9; DatasheetVersion: SLVSAT8A; PackageVersion: revB, Oct-2010; PackageReference: DSG8-1600X900TP; PackageDescription: 8-Pin Plastic Small Outline No-Lead, 2 x 2 x 0.8 mm Body, 0.5 mm Pitch, Exposed Pad; Supplier 1: Digi-Key; Supplier Part Number 1: 296-30229-2-ND; Eco-Plan: Green (RoHS & no Sb/Br); Topology: Buck; Mounting Technology: Surface Mount; Code_JEDEC: MO-229; ComponentLink1Description: Datasheet; ComponentLink1URL: http://www.ti.com/general/docs/lit/getliterature.tsp?genericPartNumber=TPS62170&fileType=pdf; ComponentLink2Description: Package Specification; ComponentLink2URL: http://www.ti.com/litv/pdf/mpds308a; ComponentLink3Description: URL Link1; ComponentLink3URL: Samples URL:http://www.ti.com/product/tps54611#samples
footprint DSG8-1600X900TP (SON, 8-Leads, Body 2x2mm, Pitch 0.5mm, Thermal Pad 1.6x0.9mm, TI Recommended)
pins: 1 PGND (power) "Power ground", 2 VIN (power) "Supply voltage", 3 EN (in) "Enable input (High = enabled, Low = disabled)", 4 AGND (power) "Analog Ground", 5 FB (in) "Voltage feedback of adjustable version. Connect resistive voltage divider to this pin. It is recommended to connect FB to AGND on fixed output voltage versions for improved thermal performance.", 6 VOS (in) "Output voltage sense pin and connection for the control loop circuitry.", 7 SW (power) "Switch node, which is connected to the internal MOSFET switches. Connect inductor between SW and output capacitor.", 8 PG (hiz) "Output power good (High = VOUT ready, Low = VOUT below nominal regulation) ; open drain (requires pull-up resistor; goes high impedance, when device is switched off)", 9 EP (power) "Must be connected to AGND. Must be soldered to achieve appropriate power dissipation and mechanical reliability."

## TPS62171DSGR
designator U?
Buck Step Down Regulator with 3 to 17 V Input and 1.8 V Output, -40 to 85 degC, 8-Pin WSON (DSG), Green (RoHS & no Sb/Br); Manufacturer: Texas Instruments; PartNumber: TPS62171DSGR; Duty Cycle(Max)(%): 100; Iout(Max)(A): 0.5; Iq(Typ)(mA): 0.017; Preset Vout(V): 1.8; Rating: Catalog; Regulated Outputs(#): 1; SubFamily: Step-Down Regulator; Switch Current Limit(Typ)(A): 1.05; Synchronous Rectification: TRUE; Vin(Max)(V): 17; Vin(Min)(V): 3; DatasheetVersion: SLVSAT8A; PackageVersion: revB, Oct-2010; PackageReference: DSG8-1600X900TP; PackageDescription: 8-Pin Plastic Small Outline No-Lead, 2 x 2 x 0.8 mm Body, 0.5 mm Pitch, Exposed Pad; Supplier 1: Digi-Key; Supplier Part Number 1: TPS62171DSGR-ND; Eco-Plan: Green (RoHS & no Sb/Br); Topology: Buck; Vout(Max)(V): 1.8; Vout(Min)(V): 1.8; Mounting Technology: Surface Mount; Code_JEDEC: MO-229; ComponentLink1Description: Datasheet; ComponentLink1URL: http://www.ti.com/general/docs/lit/getliterature.tsp?genericPartNumber=TPS62171&fileType=pdf; ComponentLink2Description: Package Specification; ComponentLink2URL: http://www.ti.com/litv/pdf/mpds308a; ComponentLink3Description: URL Link1; ComponentLink3URL: Samples URL:http://www.ti.com/product/tps62171#samples
footprint DSG8-1600X900TP (SON, 8-Leads, Body 2x2mm, Pitch 0.5mm, Thermal Pad 1.6x0.9mm, TI Recommended)
pins: 1 PGND (power) "Power ground", 2 VIN (power) "Supply voltage", 3 EN (in) "Enable input (High = enabled, Low = disabled)", 4 AGND (power) "Analog Ground", 5 FB "Voltage feedback of adjustable version. Connect resistive voltage divider to this pin. It is recommended to connect FB to AGND on fixed output voltage versions for improved thermal performance.", 6 VOS (in) "Output voltage sense pin and connection for the control loop circuitry.", 7 SW (power) "Switch node, which is connected to the internal MOSFET switches. Connect inductor between SW and output capacitor.", 8 PG (hiz) "Output power good (High = VOUT ready, Low = VOUT below nominal regulation) ; open drain (requires pull-up resistor; goes high impedance, when device is switched off)", 9 EP (power) "Must be connected to AGND. Must be soldered to achieve appropriate power dissipation and mechanical reliability."

## TPS62171DSGT
designator U?
Buck Step Down Regulator with 3 to 17 V Input and 1.8 V Output, -40 to 85 degC, 8-Pin WSON (DSG), Green (RoHS & no Sb/Br); Manufacturer: Texas Instruments; PartNumber: TPS62171DSGT; Duty Cycle(Max)(%): 100; Iout(Max)(A): 0.5; Iq(Typ)(mA): 0.017; Preset Vout(V): 1.8; Rating: Catalog; Regulated Outputs(#): 1; SubFamily: Step-Down Regulator; Switch Current Limit(Typ)(A): 1.05; Synchronous Rectification: TRUE; Vin(Max)(V): 17; Vin(Min)(V): 3; DatasheetVersion: SLVSAT8A; PackageVersion: revB, Oct-2010; PackageReference: DSG8-1600X900TP; PackageDescription: 8-Pin Plastic Small Outline No-Lead, 2 x 2 x 0.8 mm Body, 0.5 mm Pitch, Exposed Pad; Supplier 1: Digi-Key; Supplier Part Number 1: 296-29878-2-ND; Eco-Plan: Green (RoHS & no Sb/Br); Topology: Buck; Vout(Max)(V): 1.8; Vout(Min)(V): 1.8; Mounting Technology: Surface Mount; Code_JEDEC: MO-229; ComponentLink1Description: Datasheet; ComponentLink1URL: http://www.ti.com/general/docs/lit/getliterature.tsp?genericPartNumber=TPS62171&fileType=pdf; ComponentLink2Description: Package Specification; ComponentLink2URL: http://www.ti.com/litv/pdf/mpds308a; ComponentLink3Description: URL Link1; ComponentLink3URL: Samples URL:http://www.ti.com/product/tps54611#samples
footprint DSG8-1600X900TP (SON, 8-Leads, Body 2x2mm, Pitch 0.5mm, Thermal Pad 1.6x0.9mm, TI Recommended)
pins: 1 PGND (power) "Power ground", 2 VIN (power) "Supply voltage", 3 EN (in) "Enable input (High = enabled, Low = disabled)", 4 AGND (power) "Analog Ground", 5 FB "Voltage feedback of adjustable version. Connect resistive voltage divider to this pin. It is recommended to connect FB to AGND on fixed output voltage versions for improved thermal performance.", 6 VOS (in) "Output voltage sense pin and connection for the control loop circuitry.", 7 SW (power) "Switch node, which is connected to the internal MOSFET switches. Connect inductor between SW and output capacitor.", 8 PG (hiz) "Output power good (High = VOUT ready, Low = VOUT below nominal regulation) ; open drain (requires pull-up resistor; goes high impedance, when device is switched off)", 9 EP (power) "Must be connected to AGND. Must be soldered to achieve appropriate power dissipation and mechanical reliability."

## TPS62172DSGR
designator U?
Buck Step Down Regulator with 3 to 17 V Input and 3.3 V Output, -40 to 85 degC, 8-Pin WSON (DSG), Green (RoHS & no Sb/Br); Manufacturer: Texas Instruments; PartNumber: TPS62172DSGR; Duty Cycle(Max)(%): 100; Iout(Max)(A): 0.5; Iq(Typ)(mA): 0.017; Preset Vout(V): 3.3; Rating: Catalog; Regulated Outputs(#): 1; SubFamily: Step-Down Regulator; Switch Current Limit(Typ)(A): 1.05; Synchronous Rectification: TRUE; Vin(Max)(V): 17; Vin(Min)(V): 3; DatasheetVersion: SLVSAT8A; PackageVersion: revB, Oct-2010; PackageReference: DSG8-1600X900TP; PackageDescription: 8-Pin Plastic Small Outline No-Lead, 2 x 2 x 0.8 mm Body, 0.5 mm Pitch, Exposed Pad; Supplier 1: Digi-Key; Supplier Part Number 1: TPS62172DSGR-ND; Eco-Plan: Green (RoHS & no Sb/Br); Topology: Buck; Vout(Max)(V): 3.3; Vout(Min)(V): 3.3; Mounting Technology: Surface Mount; Code_JEDEC: MO-229; ComponentLink1Description: Datasheet; ComponentLink1URL: http://www.ti.com/general/docs/lit/getliterature.tsp?genericPartNumber=TPS62172&fileType=pdf; ComponentLink2Description: Package Specification; ComponentLink2URL: http://www.ti.com/litv/pdf/mpds308a; ComponentLink3Description: URL Link1; ComponentLink3URL: Samples URL:http://www.ti.com/product/tps62172#samples
footprint DSG8-1600X900TP (SON, 8-Leads, Body 2x2mm, Pitch 0.5mm, Thermal Pad 1.6x0.9mm, TI Recommended)
pins: 1 PGND (power) "Power ground", 2 VIN (power) "Supply voltage", 3 EN (in) "Enable input (High = enabled, Low = disabled)", 4 AGND (power) "Analog Ground", 5 FB (in) "Voltage feedback of adjustable version. Connect resistive voltage divider to this pin. It is recommended to connect FB to AGND on fixed output voltage versions for improved thermal performance.", 6 VOS (in) "Output voltage sense pin and connection for the control loop circuitry.", 7 SW (power) "Switch node, which is connected to the internal MOSFET switches. Connect inductor between SW and output capacitor.", 8 PG (hiz) "Output power good (High = VOUT ready, Low = VOUT below nominal regulation) ; open drain (requires pull-up resistor; goes high impedance, when device is switched off)", 9 EP (power) "Must be connected to AGND. Must be soldered to achieve appropriate power dissipation and mechanical reliability."